# Altium footprint library resistor.PcbLib: 9 footprints
Each footprint in its own frame and in the unit in brackets; x right, y up, seen from the top. Pads: shape width x height; smd on the part's side, far side on the other; paste and mask are expansions set on the pad; w line width, h text height; cw(c..) or ccw(c..) is an arc to the next point about the centre after c.
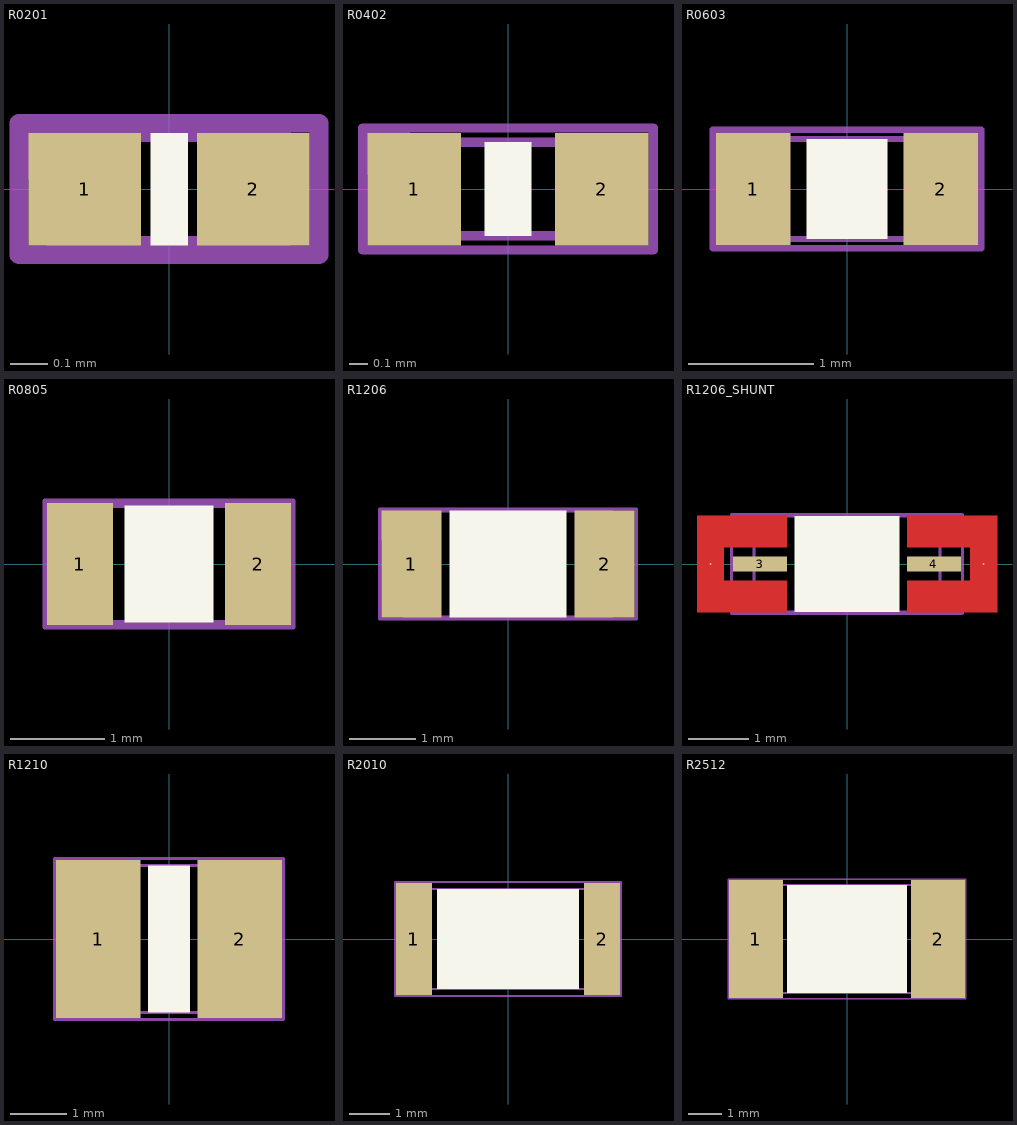
[diagram p0: the footprints below, top view; thin cyan lines are the x and y axes]

## R0201 [mm]
pads (2):
  rect 0.3x0.3 smd: 1(-0.225,0) 2(0.225,0)
Top Overlay:
  rectangle: -0.05,-0.15 0.05,0.15
Top 3D Body:
  lines w0.05: -0.3,-0.15 0.3,-0.15 0.3,0.15 -0.3,0.15 -0.3,-0.15
Top Courtyard:
  region: -0.4,0.175 -0.225,0.175 -0.4,0
  lines w0.05: -0.4,-0.175 0.4,-0.175 0.4,0.175 -0.4,0.175 -0.4,-0.175
Top Designator:
  text ".Designator" at -0.35,-0.075 h0.24
3D body: height 0.28, standoff 0, extent -0.15,-0.15 0.15,0.15
3D body: height 0.28, standoff 0, extent 0.15,-0.15 0.3,0.15
3D body: height 0.28, standoff 0, extent -0.3,-0.15 -0.15,0.15

## R0402 [mm]
pads (2):
  rect 0.5x0.6 smd: 1(-0.5,0) 2(0.5,0)
Top Overlay:
  rectangle: -0.125,-0.25 0.125,0.25
Top 3D Body:
  lines w0.05: -0.5,-0.25 0.5,-0.25 0.5,0.25 -0.5,0.25 -0.5,-0.25
Top Courtyard:
  region: -0.775,0.325 -0.5,0.325 -0.775,0.05
  lines w0.05: -0.775,-0.325 0.775,-0.325 0.775,0.325 -0.775,0.325 -0.775,-0.325
Top Designator:
  text ".Designator" at -0.675,-0.15 h0.4
3D body: height 0.5, standoff 0, extent -0.25,-0.25 0.25,0.25
3D body: height 0.5, standoff 0, extent 0.25,-0.25 0.5,0.25
3D body: height 0.5, standoff 0, extent -0.5,-0.25 -0.25,0.25

## R0603 [mm]
pads (2):
  rect 0.6x0.9 smd: 1(-0.75,0) 2(0.75,0)
Top Overlay:
  rectangle: -0.325,-0.4 0.325,0.4
Top 3D Body:
  lines w0.05: -0.775,-0.4 -0.775,0.4 0.775,0.4 0.775,-0.4 -0.775,-0.4
Top Courtyard:
  region: -1.075,0.475 -0.75,0.475 -1.075,0.15
  lines w0.05: -1.075,-0.475 -1.075,0.475 1.075,0.475 1.075,-0.475 -1.075,-0.475
Top Designator:
  text ".Designator" at -0.95,-0.175 h0.48
3D body: height 0.75, standoff 0, extent -0.775,-0.4 -0.475,0.4
3D body: height 0.75, standoff 0, extent 0.475,-0.4 0.775,0.4
3D body: height 0.75, standoff 0, extent -0.475,-0.4 0.475,0.4

## R0805 [mm]
pads (2):
  rect 0.7x1.3 smd: 1(-0.95,0) 2(0.95,0)
Top Overlay:
  rectangle: -0.475,-0.625 0.475,0.625
Top 3D Body:
  lines w0.05: -1,-0.625 1,-0.625 1,0.625 -1,0.625 -1,-0.625
Top Courtyard:
  region: -1.325,0.675 -0.925,0.675 -1.325,0.275
  lines w0.05: -1.325,-0.675 1.325,-0.675 1.325,0.675 -1.325,0.675 -1.325,-0.675
Top Designator:
  text ".Designator" at -1.175,-0.175 h0.56
3D body: height 0.75, standoff 0, extent -0.6,-0.625 0.6,0.625
3D body: height 0.75, standoff 0, extent 0.6,-0.625 1,0.625
3D body: height 0.75, standoff 0, extent -1,-0.625 -0.6,0.625

## R1206 [mm]
pads (2):
  rect 0.9x1.6 smd: 1(-1.45,0) 2(1.45,0)
Top Overlay:
  rectangle: -0.875,-0.8 0.875,0.8
Top 3D Body:
  lines w0.05: -1.55,-0.8 -1.55,0.8 1.55,0.8 1.55,-0.8 -1.55,-0.8
Top Courtyard:
  region: -1.925,0.825 -1.425,0.825 -1.925,0.325
  lines w0.05: -1.925,-0.825 -1.925,0.825 1.925,0.825 1.925,-0.825 -1.925,-0.825
Top Designator:
  text ".Designator" at -1.62,-0.36 h0.72
3D body: height 1, standoff 0, extent -1.55,-0.8 -1.1,0.8
3D body: height 1, standoff 0, extent 1.1,-0.8 1.55,0.8
3D body: height 1, standoff 0, extent -1.1,-0.8 1.1,0.8

## R1206_SHUNT [mm]
pads (4):
  round 0.025 smd: 1(-2.275,0) 1(2.275,0)
  rect 0.9x0.25 smd: 3(-1.45,0) 4(1.45,0)
Top Layer:
  region: 1,0.8 1,0.275 2.05,0.275 2.05,-0.275 1,-0.275 1,-0.8 2.5,-0.8 2.5,0.8
  region: -1,0.8 -1,0.275 -2.05,0.275 -2.05,-0.275 -1,-0.275 -1,-0.8 -2.5,-0.8 -2.5,0.8
Top Overlay:
  rectangle: -0.875,-0.8 0.875,0.8
Top 3D Body:
  lines w0.05: -1.55,-0.8 1.55,-0.8 1.55,0.8 -1.55,0.8 -1.55,-0.8
Top Courtyard:
  region: -1.925,0.825 -1.425,0.825 -1.925,0.325
  lines w0.05: -1.925,-0.825 1.925,-0.825 1.925,0.825 -1.925,0.825 -1.925,-0.825
Top Designator:
  text ".Designator" at -1.62,-0.36 h0.72
3D body: height 1, standoff 0, extent -1.1,-0.8 1.1,0.8
3D body: height 1, standoff 0, extent 1.1,-0.8 1.55,0.8
3D body: height 1, standoff 0, extent -1.55,-0.8 -1.1,0.8

## R1210 [mm]
pads (2):
  rect 1.5x2.8 smd: 1(-1.25,0) 2(1.25,0)
Top Overlay:
  rectangle: -0.375,-1.3 0.375,1.3
Top 3D Body:
  lines w0.05: -1.55,-1.3 1.55,-1.3 1.55,1.3 -1.55,1.3 -1.55,-1.3
Top Courtyard:
  region: -2.025,1.425 -1.275,1.425 -2.025,0.675
  lines w0.05: -2.025,-1.425 2.025,-1.425 2.025,1.425 -2.025,1.425 -2.025,-1.425
Top Designator:
  text ".Designator" at -1.75,-0.425 h1.2
3D body: height 0.7, standoff 0, extent -1.05,-1.3 1.05,1.3
3D body: height 0.7, standoff 0, extent 1.05,-1.3 1.55,1.3
3D body: height 0.7, standoff 0, extent -1.55,-1.3 -1.05,1.3

## R2010 [mm]
pads (2):
  rect 0.9x2.8 smd: 1(-2.35,0) 2(2.35,0)
Top Overlay:
  rectangle: -1.775,-1.25 1.775,1.25
Top 3D Body:
  lines w0.05: -2.5,-1.25 -2.5,1.25 2.5,1.25 2.5,-1.25 -2.5,-1.25
Top Courtyard:
  region: -2.825,1.425 -2.325,1.425 -2.825,0.925
  lines w0.05: -2.825,-1.425 -2.825,1.425 2.825,1.425 2.825,-1.425 -2.825,-1.425
Top Designator:
  text ".Designator" at -2.65,-0.275 h0.72
3D body: height 1.05, standoff 0, extent -2.5,-1.25 -2,1.25
3D body: height 1.05, standoff 0, extent 2,-1.25 2.5,1.25
3D body: height 1.05, standoff 0, extent -2,-1.25 2,1.25

## R2512 [mm]
pads (2):
  rect 1.6x3.5 smd: 1(-2.7,0) 2(2.7,0)
Top Overlay:
  rectangle: -1.775,-1.6 1.775,1.6
Top 3D Body:
  lines w0.05: -3.175,-1.6 3.175,-1.6 3.175,1.6 -3.175,1.6 -3.175,-1.6
Top Courtyard:
  region: -3.525,1.775 -2.675,1.775 -3.525,0.925
  lines w0.05: -3.525,-1.775 3.525,-1.775 3.525,1.775 -3.525,1.775 -3.525,-1.775
Top Designator:
  text ".Designator" at -3.25,-0.475 h1.28
3D body: height 1.6, standoff 0, extent -2.675,-1.6 2.675,1.6
3D body: height 1.6, standoff 0, extent 2.675,-1.6 3.175,1.6
3D body: height 1.6, standoff 0, extent -3.175,-1.6 -2.675,1.6